# Altium footprint library PCB_Lib.PcbLib: 296 footprints (part 18 of 19)
Each footprint in its own frame and in the unit in brackets; x right, y up, seen from the top. Pads: shape width x height; smd on the part's side, far side on the other; paste and mask are expansions set on the pad; w line width, h text height; cw(c..) or ccw(c..) is an arc to the next point about the centre after c.
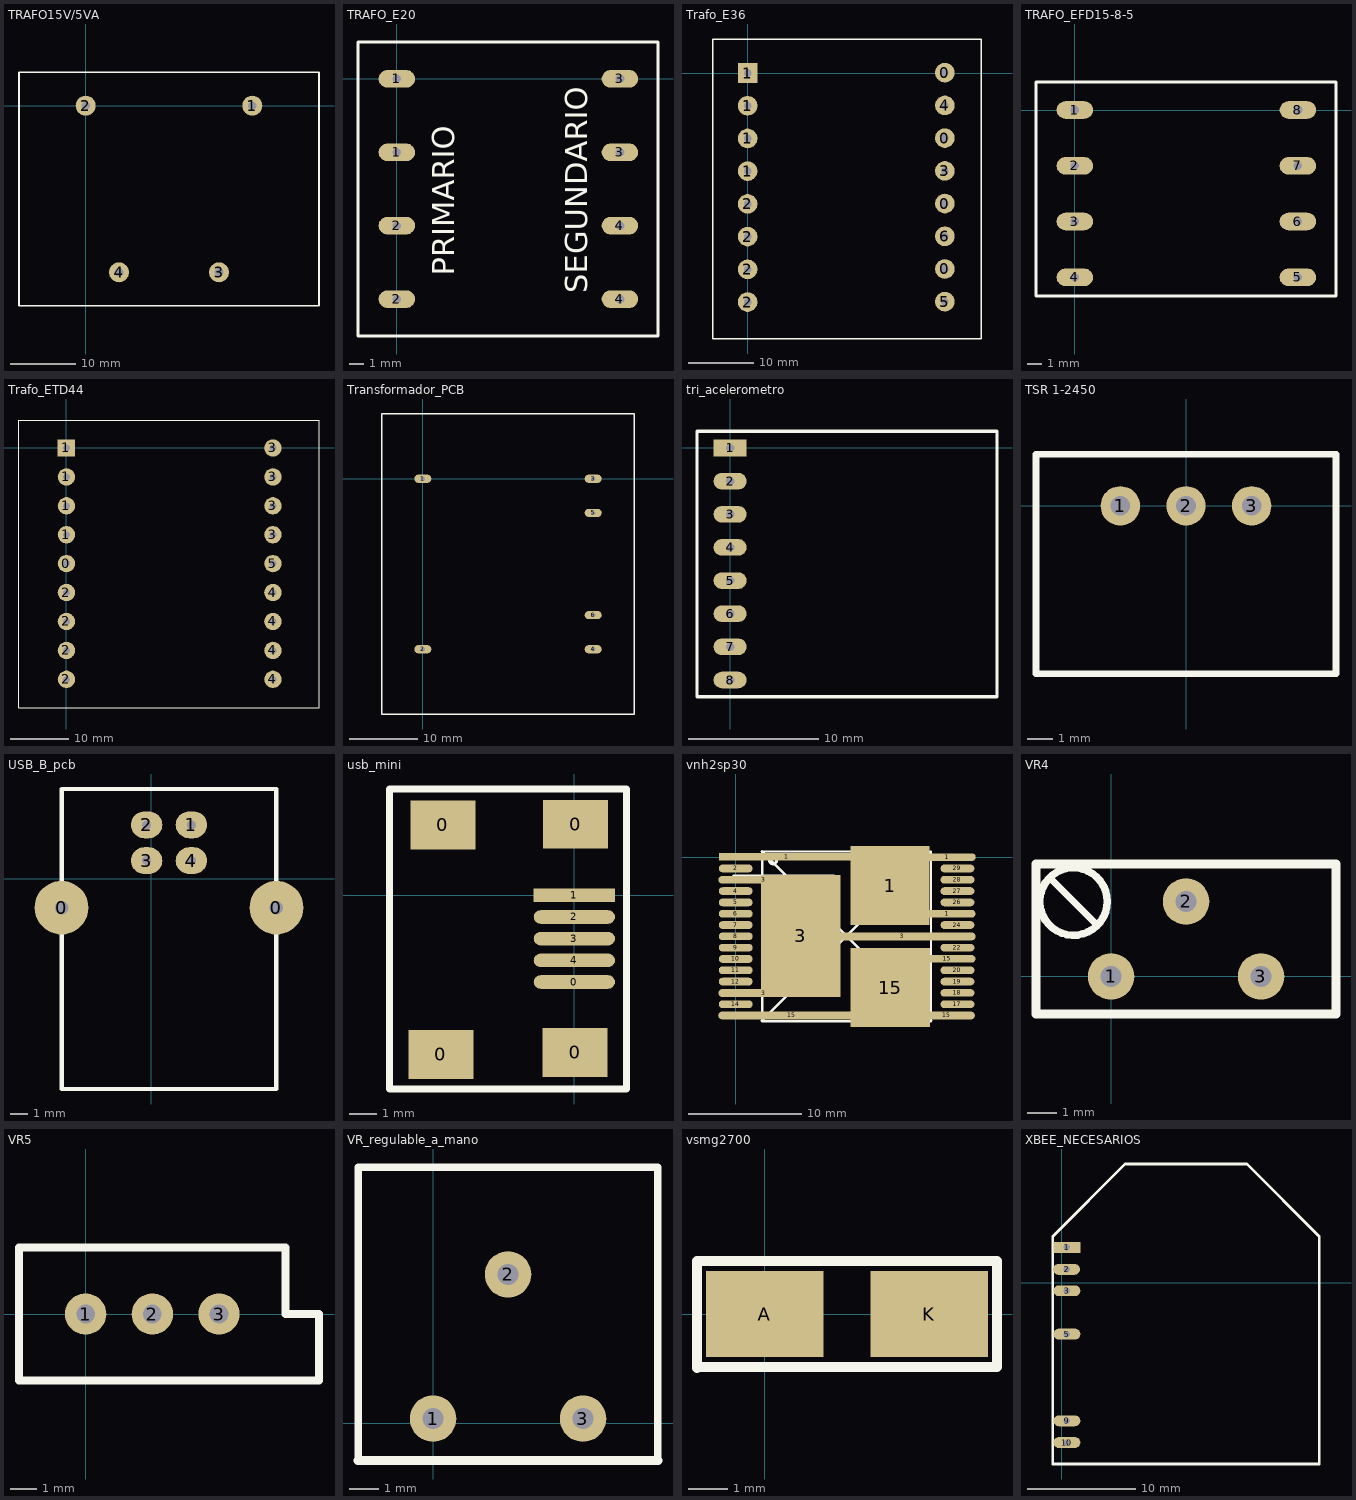
[diagram p17: the footprints below, top view; thin cyan lines are the x and y axes]

## TRAFO15V/5VA [mil]
pads (4):
  round 120 hole 52: 1(1000,0) 2(0,0) 3(800,-1000) 4(200,-1000)
Top Overlay:
  lines w10: -400,-1200 1400,-1200 1400,200 -400,200 -400,-1200

## TRAFO_E20 [mm]
pads (8):
  oval 2.5x1.2 hole 0.6: 1(0,-5.02) 1(0,0) 2(0,-15.06) 2(0,-10.04) 3(15.25,-5.02) 3(15.25,0) 4(15.25,-15.06) 4(15.25,-10.04)
Top Overlay:
  lines w0.2: 8.88,2.51 17.85,2.51 17.85,-17.57 -2.65,-17.57 -2.65,2.51 9.075,2.51
  text "PRIMARIO" at 3.925,-13.45 h1.52
  text "SEGUNDARIO" at 13,-14.65 h1.52

## Trafo_E36 [mm]
pads (16):
  round 3 hole 1.2: 0(30.125,-29.95) 0(30.125,-19.95) 0(30.125,-9.95) 0(30.125,0.05) 1(0,-15) 1(0,-10) 1(0,-5) 2(0,-35) 2(0,-30) 2(0,-25) 2(0,-20) 3(30.125,-14.95) 4(30.125,-4.95) 5(30.125,-34.95) 6(30.125,-24.95)
  rect 3x3 hole 1.2: 1(0,0)
Top Overlay:
  lines w0.2: -5.35,-40.65 35.7,-40.65 35.7,5.2 -5.35,5.2 -5.35,-40.65

## TRAFO_EFD15-8-5 [mm]
pads (8):
  oval 2.5x1.2 hole 0.6: 1(0,0) 2(0,-3.81) 3(0,-7.62) 4(0,-11.43) 5(15.24,-11.43) 6(15.24,-7.62) 7(15.24,-3.81) 8(15.25,0)
Top Overlay:
  lines w0.2: 8.88,1.905 17.85,1.905 17.85,-12.7 -2.65,-12.7 -2.65,1.905 9.525,1.905

## Trafo_ETD44 [mm]
pads (18):
  round 3 hole 1.2: 0(0,-20) 1(0,-15) 1(0,-10) 1(0,-5) 2(0,-40) 2(0,-35) 2(0,-30) 2(0,-25) 3(35.7,-15) 3(35.7,-10) 3(35.7,-5) 3(35.7,0) 4(35.7,-40) 4(35.7,-35) 4(35.7,-30) 4(35.7,-25) 5(35.7,-20)
  rect 3x3 hole 1.2: 1(0,0)
Top Overlay:
  lines w0.2: -8.2,-44.95 -8.2,4.825 43.675,4.825 43.675,-44.95 -8.2,-44.95

## Transformador_PCB [mm]
pads (6):
  oval 2.5x1.2 hole 0.6: 1(0,0) 2(0,-25) 3(25,0) 4(25,-25) 5(25,-5) 6(25,-20)
Top Overlay:
  lines w0.2: -6,-34.5 31,-34.5 31,9.5 -6,9.5 -6,-34.5

## tri_acelerometro [mil]
pads (8):
  rect 100x50 hole 25: 1(0,0)
  oval 100x50 hole 25: 2(0,-100) 3(0,-200) 4(0,-300) 5(0,-400) 6(0,-500) 7(0,-600) 8(0,-700)
Top Overlay:
  lines w10: -100,-750 -100,50 805,50 805,-750 -100,-750

## TSR 1-2450 [mil]
height 409.45
pads (3):
  round 60 hole 30: 1(-100,0) 2(0,0) 3(100,0)
Top Overlay:
  lines w10: -228.35,-255.91 228.35,-255.91 228.35,78.74 -228.35,78.74 -228.35,-255.91

## USB_B_pcb [mil] "Puerto USB tipo B parar placas"
height 200
pads (6):
  round 120 hole 30: 0(-200,-65) 0(280,-65)
  oval 70x60 hole 20: 1(90,120) 2(-10,120) 3(-10,40) 4(90,40)
Top Overlay:
  lines w10: -200,-470 -200,200 280,200 280,-470 -200,-470

## usb_mini [mm]
pads (9):
  rect 2.4x1.8 smd: 0(-4.925,-5.875) 0(-4.85,2.6) 0(0.025,-5.8) 0(0.05,2.625)
  oval 3x0.5 smd: 0(0,-3.2) 2(0,-0.8) 3(0,-1.6) 4(0,-2.4)
  rect 3x0.5 smd: 1(0,0)
Top Overlay:
  lines w0.254: -6.825,-7.15 -6.825,3.925 1.925,3.925 1.925,-7.15 -6.825,-7.15

## vnh2sp30 [mm]
pads (33):
  rect 12x0.68 smd: 1(4.521,0.025)
  rect 7x7 smd: 1(13.64,-2.515) 15(13.665,-11.532)
  oval 5x0.68 smd: 1(18.694,-5.004) 1(18.72,0) 15(18.644,-13.995) 15(18.694,-8.992)
  oval 3x0.68 smd: 2(0,-1) 4(0,-3) 5(0,-4) 6(0,-5) 7(0,-6) 8(0,-7) 9(0,-8) 10(0,-9) 11(0,-10) 12(0,-11) 14(0,-13) 17(19.6,-13) 18(19.6,-12) 19(19.6,-11) 20(19.6,-10) 22(19.6,-8) 24(19.6,-6) 26(19.6,-4) 27(19.6,-3) 28(19.6,-2) 29(19.6,-1)
  oval 8x0.68 smd: 3(2.464,-12.014) 3(2.464,-2.007)
  rect 7x10.8 smd: 3(5.74,-6.96)
  oval 13x0.68 smd: 3(14.707,-7.01) 15(4.953,-13.995)
Top Overlay:
  circle w0.254: c3.302,-0.279 r0.318
  lines w0.2: 2.335,-14.5 17.265,-14.5 17.265,0.5 10.05,0.5 ccw(c9.8,-3.346) 9.55,0.5 2.335,0.5 2.335,-14.5
  lines w0.254: -0.203,-1.651 8.687,-1.651 ; 2.335,-14.5 2.335,-14.43 17.221,0.456 ; 2.335,0.5 17.265,-14.43

## VR4 [mil]
pads (3):
  round 62 hole 28: 1(0,0) 2(100,100) 3(200,0)
Top Overlay:
  circle w10: c-50,100 r45
  lines w10: -80,130 -20,70
  lines w12: -100,-50 300,-50 300,150 200,150 -100,150 -100,-50

## VR5 [mil]
pads (3):
  round 62 hole 28: 1(0,0) 2(100,0) 3(200,0)
Top Overlay:
  lines w12: -100,-100 350,-100 350,0 300,0 300,100 -100,100 -100,-100

## VR_regulable_a_mano [mil]
pads (3):
  round 62 hole 28: 1(0,5.91) 2(100,198.23) 3(200,5.91)
Top Overlay:
  lines w10: -100,-50 -100,340.94 300,340.94 300,-50
  lines w12: -100,-50 300,-50

## vsmg2700 [mm]
pads (2):
  rect 3x2.2 smd: A(0,0) K(4.2,0)
Top Overlay:
  lines w0.254: -1.725,-1.375 -1.725,1.35 5.925,1.35 5.925,-1.35 -1.725,-1.35

## XBEE_NECESARIOS [mm]
pads (6):
  rect 2.5x1 hole 0.6: 1(0.483,3.251)
  oval 2.5x1 hole 0.6: 2(0.458,1.225) 3(0.483,-0.75) 5(0.483,-4.752) 9(0.483,-12.755) 10(0.483,-14.756)
Top Overlay:
  lines w0.254: 23.778,-16.739 -0.813,-16.739 -0.813,4.264 5.871,10.947 11.557,10.947 17.094,10.947 23.778,4.264 23.778,-16.688